# Altium footprint library con-hirose-df13.PCBLIB: 58 footprints (part 1 of 4)
Each footprint in its own frame and in the unit in brackets; x right, y up, seen from the top. Pads: shape width x height; smd on the part's side, far side on the other; paste and mask are expansions set on the pad; w line width, h text height; cw(c..) or ccw(c..) is an arc to the next point about the centre after c.
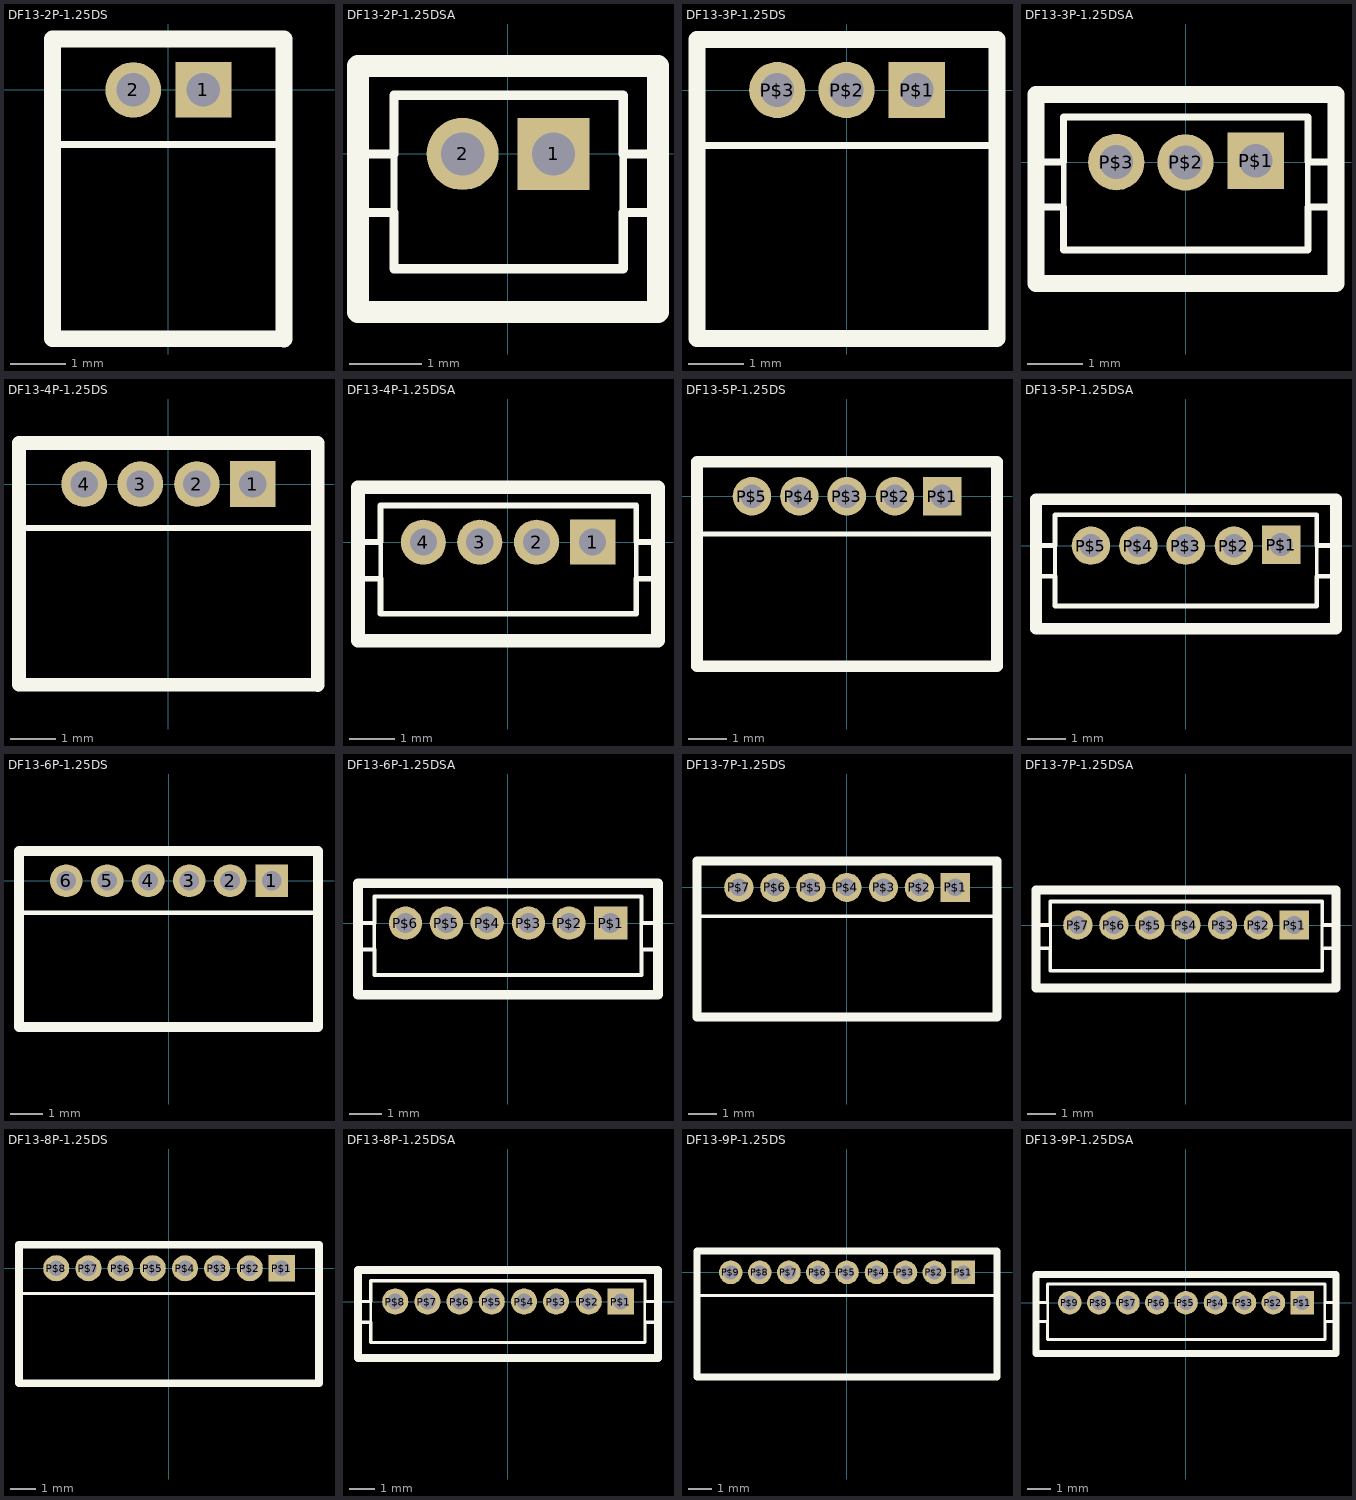
[diagram p0: the footprints below, top view; thin cyan lines are the x and y axes]

## DF13-2P-1.25DS [mm]
pads (2):
  rect 1x1 hole 0.6: 1(0.635,0)
  round 1 hole 0.6: 2(-0.625,0)
Top Overlay:
  lines w0.127: -2.075,-0.98 2.108,-0.98
  lines w0.305: -2.075,-2.19 -2.075,-0.98 ; -2.075,-0.81 -2.075,-0.98 ; -2.075,-0.98 -2.075,-4.47 2.083,-4.475 2.083,0.914 -2.075,0.914 -2.075,-0.98
3D body "DF13-2P-1.25DS.stp": height 3.63, standoff -2.27, extent -2.1,-4.5 2.05,0.9

## DF13-2P-1.25DSA [mm]
pads (2):
  rect 1x1 hole 0.6: 1(0.635,0)
  round 1 hole 0.6: 2(-0.625,0)
Top Overlay:
  lines w0.102: -1.575,-0.81 -1.575,0 ; 1.6,-0.81 1.6,0
  lines w0.127: -2.075,-0.81 -1.575,-0.81 -1.575,-1.59 1.6,-1.59 1.6,-0.81 2.083,-0.81 ; -2.075,0 -1.575,0 -1.575,0.813 1.6,0.813 1.6,0 2.083,0
  lines w0.305: -2.075,-2.19 2.083,-2.19 2.083,-0.81 2.083,0 2.083,1.219 -2.075,1.219 -2.075,0 -2.075,-0.81 -2.075,-2.19
Mechanical 2:
Mechanical 4:
3D body "DF13-2P-1.25DSA.stp": height 4.37, standoff -2.23, extent -2.032,-2.159 2.118,1.241

## DF13-3P-1.25DS [mil]
pads (3):
  rect 40x40 hole 24: P$1(50,0)
  round 40 hole 24: P$2(0,0) P$3(-49.21,0)
Top Overlay:
  lines w5: -106.3,-39.37 107,-39.37
  lines w12: -106.3,-176.77 -106.3,-39.37 -106.3,36 107,36 107,-39.37 107,-176.77 -106.3,-176.77
Mechanical 2:
  text ">NAME" at -123.03,63 h77.5
Mechanical 4:
  text ">VALUE" at -123.03,-246.26 h77.5

## DF13-3P-1.25DSA [mil]
pads (3):
  rect 40x40 hole 24: P$1(50,1)
  round 40 hole 24: P$2(0,-0.2) P$3(-49.21,0)
Top Overlay:
  lines w4: -86.61,-31.89 -86.61,0 ; 87,-31.89 87,0
  lines w5: -106.3,-31.89 -86.61,-31.89 -86.61,-62.6 87,-62.6 87,-31.89 107,-31.89 ; -106.3,0 -86.61,0 -86.61,32 87,32 87,0 107,0
  lines w12: -106.3,-86.22 107,-86.22 107,-31.89 107,0 107,48 -106.3,48 -106.3,0 -106.3,-31.89 -106.3,-86.22
Mechanical 2:
  text ">NAME" at -123.03,74 h77.5
Mechanical 4:
  text ">VALUE" at -123.03,-147.64 h77.5

## DF13-4P-1.25DS [mil]
pads (4):
  rect 40x40 hole 24: 1(74,0)
  round 40 hole 24: 2(25,0) 3(-24.61,0) 4(-73.82,0)
Top Overlay:
  lines w5: -130.91,-38.58 132,-38.58
  lines w12: -130.91,-86.22 -130.91,-38.58 ; -130.91,-31.89 -130.91,-38.58 ; -130.91,-38.58 -130.91,36 131,36 131,-176.18 -130.91,-175.98 -130.91,-38.58
Mechanical 2:
Mechanical 4:
3D body "DF13-4P-1.25DS.stp": height 144.99, standoff -87.29, extent -130.91,-177.16 130.91,35.44

## DF13-4P-1.25DSA [mm]
pads (4):
  rect 1x1 hole 0.6: 1(1.88,0)
  round 1 hole 0.6: 2(0.635,0) 3(-0.625,0) 4(-1.875,0)
Top Overlay:
  lines w0.102: -2.825,-0.81 -2.825,0 ; 2.845,-0.81 2.845,0
  lines w0.127: -3.325,-0.81 -2.825,-0.81 -2.825,-1.59 2.845,-1.59 2.845,-0.81 3.327,-0.81 ; -3.325,0 -2.825,0 -2.825,0.813 2.845,0.813 2.845,0 3.327,0
  lines w0.305: -3.325,-2.19 -3.325,-0.81 -3.325,0 -3.325,1.219 3.327,1.219 3.327,0 3.327,-0.81 3.327,-2.19 -3.325,-2.19
Mechanical 2:
Mechanical 4:
3D body "DF13-4P-1.25DSA.stp": height 4.37, standoff -2.23, extent -3.348,-2.208 3.302,1.192

## DF13-5P-1.25DS [mil]
pads (5):
  rect 40x40 hole 24: P$1(99,0)
  round 40 hole 24: P$2(50,0) P$3(0,0) P$4(-49.21,0) P$5(-98.43,0)
Top Overlay:
  lines w5: -155.51,-39.37 156,-39.37
  lines w12: -155.51,-176.77 -155.51,-39.37 -155.51,36 156,36 156,-39.37 156,-176.77 -155.51,-176.77
Mechanical 2:
Mechanical 4:

## DF13-5P-1.25DSA [mil]
pads (5):
  rect 40x40 hole 24: P$1(99,1)
  round 40 hole 24: P$2(50,-0.2) P$3(0,0) P$4(-49.21,0) P$5(-98.43,0)
Top Overlay:
  lines w4: -135.83,-31.89 -135.83,0 ; 136,-31.89 136,0
  lines w5: -155.51,-31.89 -135.83,-31.89 -135.83,-62.6 136,-62.6 136,-31.89 156,-31.89 ; -155.51,0 -135.83,0 -135.83,32 136,32 136,0 156,0
  lines w12: -155.51,-86.22 -155.51,-31.89 -155.51,0 -155.51,48 156,48 156,0 156,-31.89 156,-86.22 -155.51,-86.22
Mechanical 2:
  text ">NAME" at -123.03,74 h77.5
Mechanical 4:
  text ">VALUE" at -123.03,-147.64 h77.5

## DF13-6P-1.25DS [mm]
pads (6):
  rect 1x1 hole 0.6: 1(3.15,0)
  round 1 hole 0.6: 2(1.88,0) 3(0.635,0) 4(-0.625,0) 5(-1.875,0) 6(-3.125,0)
Top Overlay:
  lines w0.127: -4.57,-0.98 4.597,-0.98
  lines w0.305: -4.57,-2.19 -4.57,-0.98 ; -4.57,-0.81 -4.57,-0.98 ; -4.57,-0.98 -4.57,0.914 4.572,0.914 4.572,-4.475 -4.57,-4.47 -4.57,-0.98
Mechanical 2:
Mechanical 4:
3D body "DF13-6P-1.25DS.stp": height 3.68, standoff -2.22, extent -4.55,-4.5 4.6,0.9

## DF13-6P-1.25DSA [mil]
pads (6):
  rect 40x40 hole 24: P$1(124,0)
  round 40 hole 24: P$2(74,0) P$3(25,0) P$4(-24.61,0) P$5(-73.82,0) P$6(-123.03,0)
Top Overlay:
  lines w4: -160.43,-31.89 -160.43,0 ; 161,-31.89 161,0
  lines w5: -180.12,-31.89 -160.43,-31.89 -160.43,-62.6 161,-62.6 161,-31.89 181,-31.89 ; -180.12,0 -160.43,0 -160.43,32 161,32 161,0 181,0
  lines w12: -180.12,-86.22 181,-86.22 181,-31.89 181,0 181,48 -180.12,48 -180.12,0 -180.12,-31.89 -180.12,-86.22
Mechanical 2:
  text ">NAME" at -123.03,74 h77.5
Mechanical 4:
  text ">VALUE" at -123.03,-147.64 h77.5

## DF13-7P-1.25DS [mil]
pads (7):
  rect 40x40 hole 24: P$1(148,0)
  round 40 hole 24: P$2(99,0) P$3(50,0) P$4(0,0) P$5(-49.21,0) P$6(-98.43,0) P$7(-147.64,0)
Top Overlay:
  lines w5: -204.72,-39.37 205,-39.37
  lines w12: -204.72,-176.77 205,-176.77 205,-39.37 205,36 -204.72,36 -204.72,-39.37 -204.72,-176.77
Mechanical 2:
  text ">NAME" at -123.03,63 h77.5
Mechanical 4:
  text ">VALUE" at -123.03,-246.26 h77.5

## DF13-7P-1.25DSA [mil]
pads (7):
  rect 40x40 hole 24: P$1(148,0)
  round 40 hole 24: P$2(99,0) P$3(50,0) P$4(0,0) P$5(-49.21,0) P$6(-98.43,0) P$7(-147.64,0)
Top Overlay:
  lines w4: -185.04,-31.89 -185.04,0 ; 186,-31.89 186,0
  lines w5: -204.72,-31.89 -185.04,-31.89 -185.04,-62.6 186,-62.6 186,-31.89 205,-31.89 ; -204.72,0 -185.04,0 -185.04,32 186,32 186,0 205,0
  lines w12: -204.72,-86.22 205,-86.22 205,-31.89 205,0 205,48 -204.72,48 -204.72,0 -204.72,-31.89 -204.72,-86.22
Mechanical 2:
  text ">NAME" at -123.03,74 h77.5
Mechanical 4:
  text ">VALUE" at -123.03,-147.64 h77.5

## DF13-8P-1.25DS [mil]
pads (8):
  rect 40x40 hole 24: P$1(173,0)
  round 40 hole 24: P$2(124,0) P$3(74,0) P$4(25,0) P$5(-24.61,0) P$6(-73.82,0) P$7(-123.03,0) P$8(-172.24,0)
Top Overlay:
  lines w5: -229.33,-38.58 230,-38.58
  lines w12: -229.33,-86.22 -229.33,-38.58 ; -229.33,-31.89 -229.33,-38.58 ; -229.33,-38.58 -229.33,36 230,36 230,-176.18 -229.33,-175.98 -229.33,-38.58
Mechanical 2:
  text ">NAME" at -123.03,63 h77.5
Mechanical 4:
  text ">VALUE" at -123.03,-246.26 h77.5

## DF13-8P-1.25DSA [mil]
pads (8):
  rect 40x40 hole 24: P$1(173,0)
  round 40 hole 24: P$2(124,0) P$3(74,0) P$4(25,0) P$5(-24.61,0) P$6(-73.82,0) P$7(-123.03,0) P$8(-172.24,0)
Top Overlay:
  lines w4: -209.65,-31.89 -209.65,0 ; 210,-31.89 210,0
  lines w5: -229.33,-31.89 -209.65,-31.89 -209.65,-62.6 210,-62.6 210,-31.89 230,-31.89 ; -229.33,0 -209.65,0 -209.65,32 210,32 210,0 230,0
  lines w12: -229.33,-86.22 -229.33,-31.89 -229.33,0 -229.33,48 230,48 230,0 230,-31.89 230,-86.22 -229.33,-86.22
Mechanical 2:
  text ">NAME" at -123.03,74 h77.5
Mechanical 4:
  text ">VALUE" at -123.03,-147.64 h77.5

## DF13-9P-1.25DS [mil]
pads (9):
  rect 40x40 hole 24: P$1(197,0)
  round 40 hole 24: P$2(148,0) P$3(99,0) P$4(50,0) P$5(0,0) P$6(-49.21,0) P$7(-98.43,0) P$8(-147.64,0) P$9(-196.85,0)
Top Overlay:
  lines w5: -253.94,-39.37 254,-39.37
  lines w12: -253.94,-176.77 254,-176.77 254,-39.37 254,36 -253.94,36 -253.94,-39.37 -253.94,-176.77
Mechanical 2:
  text ">NAME" at -123.03,63 h77.5
Mechanical 4:
  text ">VALUE" at -123.03,-246.26 h77.5

## DF13-9P-1.25DSA [mil]
pads (9):
  rect 40x40 hole 24: P$1(197,0)
  round 40 hole 24: P$2(148,0) P$3(99,0) P$4(50,0) P$5(0,0) P$6(-49.21,0) P$7(-98.43,0) P$8(-147.64,0) P$9(-196.85,0)
Top Overlay:
  lines w4: -234.25,-31.89 -234.25,0 ; 235,-31.89 235,0
  lines w5: -253.94,-31.89 -234.25,-31.89 -234.25,-62.6 235,-62.6 235,-31.89 254,-31.89 ; -253.94,0 -234.25,0 -234.25,32 235,32 235,0 254,0
  lines w12: -253.94,-86.22 254,-86.22 254,-31.89 254,0 254,48 -253.94,48 -253.94,0 -253.94,-31.89 -253.94,-86.22
Mechanical 2:
  text ">NAME" at -123.03,74 h77.5
Mechanical 4:
  text ">VALUE" at -123.03,-147.64 h77.5